# Altium footprint library RCU.PcbLib: 91 footprints (part 3 of 6)
Each footprint in its own frame and in the unit in brackets; x right, y up, seen from the top. Pads: shape width x height; smd on the part's side, far side on the other; paste and mask are expansions set on the pad; w line width, h text height; cw(c..) or ccw(c..) is an arc to the next point about the centre after c.
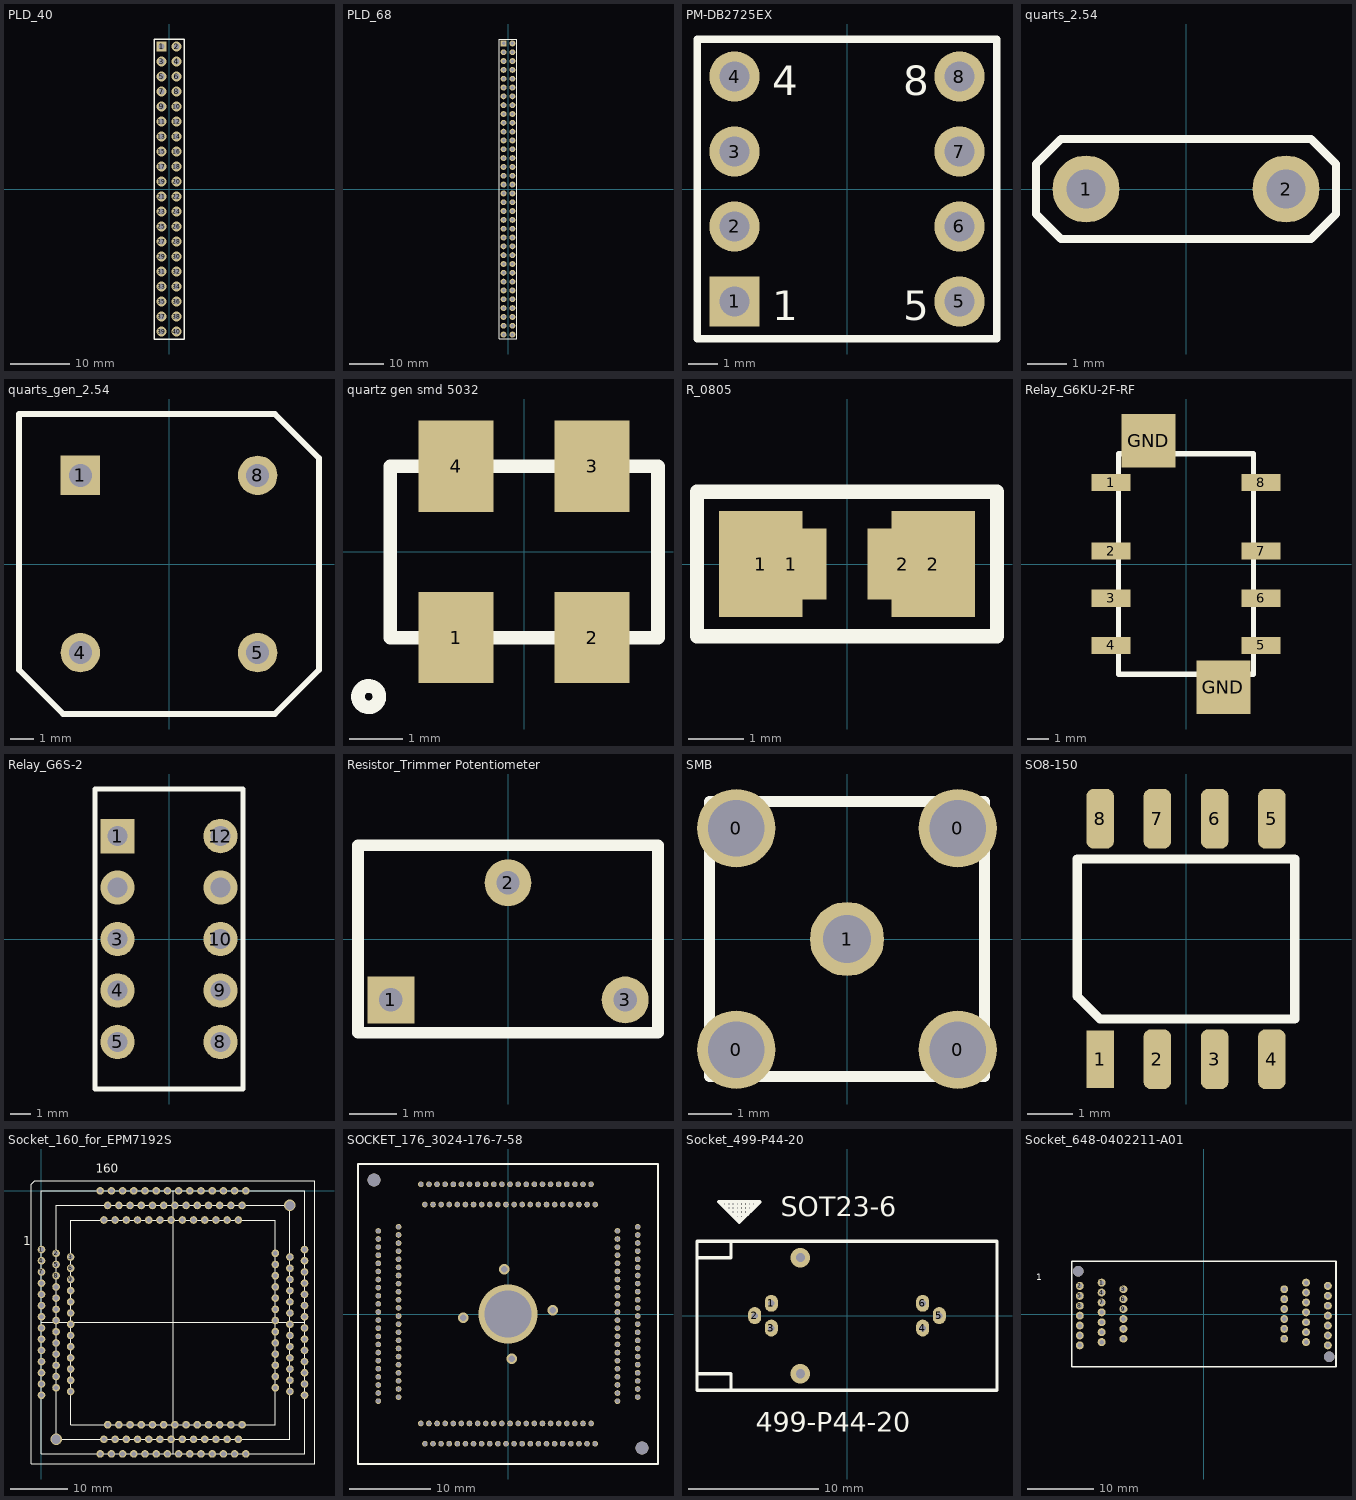
[diagram p2: the footprints below, top view; thin cyan lines are the x and y axes]

## PLD_40 [mm]
height 5
pads (40):
  rect 1.7x1.7 hole 1: 1(-1.27,24.13)
  round 1.7 hole 1: 2(1.27,24.13) 3(-1.27,21.59) 4(1.27,21.59) 5(-1.27,19.05) 6(1.27,19.05) 7(-1.27,16.51) 8(1.27,16.51) 9(-1.27,13.97) 10(1.27,13.97) 11(-1.27,11.43) 12(1.27,11.43) 13(-1.27,8.89) 14(1.27,8.89) 15(-1.27,6.35) 16(1.27,6.35) 17(-1.27,3.81) 18(1.27,3.81) 19(-1.27,1.27) 20(1.27,1.27) 21(-1.27,-1.27) 22(1.27,-1.27) 23(-1.27,-3.81) 24(1.27,-3.81) 25(-1.27,-6.35) 26(1.27,-6.35) 27(-1.27,-8.89) 28(1.27,-8.89) 29(-1.27,-11.43) 30(1.27,-11.43) 31(-1.27,-13.97) 32(1.27,-13.97) 33(-1.27,-16.51) 34(1.27,-16.51) 35(-1.27,-19.05) 36(1.27,-19.05) 37(-1.27,-21.59) 38(1.27,-21.59) 39(-1.27,-24.13) 40(1.27,-24.13)
Top Overlay:
  lines w0.254: -2.54,-25.4 -2.54,25.4 2.54,25.4 2.54,-25.4 -2.54,-25.4

## PLD_68 [mm]
height 5
pads (68):
  rect 1.7x1.7 hole 1: 1(-1.27,41.91)
  round 1.7 hole 1: 2(1.27,41.91) 3(-1.27,39.37) 4(1.27,39.37) 5(-1.27,36.83) 6(1.27,36.83) 7(-1.27,34.29) 8(1.27,34.29) 9(-1.27,31.75) 10(1.27,31.75) 11(-1.27,29.21) 12(1.27,29.21) 13(-1.27,26.67) 14(1.27,26.67) 15(-1.27,24.13) 16(1.27,24.13) 17(-1.27,21.59) 18(1.27,21.59) 19(-1.27,19.05) 20(1.27,19.05) 21(-1.27,16.51) 22(1.27,16.51) 23(-1.27,13.97) 24(1.27,13.97) 25(-1.27,11.43) 26(1.27,11.43) 27(-1.27,8.89) 28(1.27,8.89) 29(-1.27,6.35) 30(1.27,6.35) 31(-1.27,3.81) 32(1.27,3.81) 33(-1.27,1.27) 34(1.27,1.27) 35(-1.27,-1.27) 36(1.27,-1.27) 37(-1.27,-3.81) 38(1.27,-3.81) 39(-1.27,-6.35) 40(1.27,-6.35) 41(-1.27,-8.89) 42(1.27,-8.89) 43(-1.27,-11.43) 44(1.27,-11.43) 45(-1.27,-13.97) 46(1.27,-13.97) 47(-1.27,-16.51) 48(1.27,-16.51) 49(-1.27,-19.05) 50(1.27,-19.05) 51(-1.27,-21.59) 52(1.27,-21.59) 53(-1.27,-24.13) 54(1.27,-24.13) 55(-1.27,-26.67) 56(1.27,-26.67) 57(-1.27,-29.21) 58(1.27,-29.21) 59(-1.27,-31.75) 60(1.27,-31.75) 61(-1.27,-34.29) 62(1.27,-34.29) 63(-1.27,-36.83) 64(1.27,-36.83) 65(-1.27,-39.37) 66(1.27,-39.37) 67(-1.27,-41.91) 68(1.27,-41.91)
Top Overlay:
  lines w0.254: -2.54,-43.18 -2.54,43.18 2.54,43.18 2.54,-43.18 -2.54,-43.18

## PM-DB2725EX [mm]
pads (8):
  rect 1.7x1.7 hole 1: 1(-3.81,-3.81)
  round 1.7 hole 1: 2(-3.81,-1.27) 3(-3.81,1.27) 4(-3.81,3.81) 5(3.81,-3.81) 6(3.81,-1.27) 7(3.81,1.27) 8(3.81,3.81)
Top Overlay:
  lines w0.254: -5.08,-5.08 5.08,-5.08 5.08,5.08 -5.08,5.08 -5.08,-5.08
  text "8" at 1.905,3.175 h1
  text "5" at 1.905,-4.445 h1
  text "1" at -2.54,-4.445 h1
  text "4" at -2.54,3.175 h1

## quarts_2.54 [mm]
pads (2):
  round 1.7 hole 1: 1(-2.54,0) 2(2.54,0)
Top Overlay:
  lines w0.2: -3.81,-0.635 -3.81,0.635 -3.175,1.27 3.175,1.27 3.81,0.635 3.81,-0.635 3.175,-1.27 -3.175,-1.27 -3.81,-0.635

## quarts_gen_2.54 [mm]
pads (4):
  rect 1.7x1.7 hole 1: 1(-3.81,3.81)
  round 1.7 hole 1: 4(-3.81,-3.81) 5(3.81,-3.81) 8(3.81,3.81)
Top Overlay:
  lines w0.254: -6.45,-4.55 -6.45,6.45 4.55,6.45 6.45,4.55 6.45,-4.55 4.55,-6.45 -4.55,-6.45 -6.45,-4.55

## quartz gen smd 5032 [mm]
pads (4):
  rect 1.4x1.7 smd: 1(-1.27,-1.6) 2(1.27,-1.6) 3(1.27,1.6) 4(-1.27,1.6)
Top Overlay:
  circle w0.254: c-2.9,-2.7 r0.2
  lines w0.254: -2.5,-1.6 -2.5,0 -2.5,1.6 0,1.6 2.5,1.6 2.5,0 2.5,-1.6 0,-1.6 -2.5,-1.6

## R_0805 [mm]
pads (4):
  rect 1.5x1.9 smd: 1(-1.55,0) 2(1.55,0)
  rect 1.27x1.27 smd: 1(-1,0) 2(1,0)
Top Overlay:
  lines w0.254: -2.7,-1.3 2.7,-1.3 2.7,1.3 -2.7,1.3 -2.7,-1.3

## Relay_G6KU-2F-RF [mm]
pads (10):
  rect 1.8x0.8 smd: 1(-3.5,3.8) 2(-3.5,0.6) 3(-3.5,-1.6) 4(-3.5,-3.8) 5(3.5,-3.8) 6(3.5,-1.6) 7(3.5,0.6) 8(3.5,3.8)
  rect 2.5x2.5 smd: GND(-1.75,5.75) GND(1.75,-5.75)
Top Overlay:
  lines w0.254: -3.15,-5.15 3.15,-5.15 3.15,5.15 -3.15,5.15 -3.15,-5.15

## Relay_G6S-2 [mm]
pads (8):
  rect 1.7x1.7 hole 1: 1(-2.54,5.08)
  round 1.7 hole 1: 3(-2.54,0) 4(-2.54,-2.54) 5(-2.54,-5.08) 8(2.54,-5.08) 9(2.54,-2.54) 10(2.54,0) 12(2.54,5.08)
via -2.54,2.54 diameter 1.7 hole 1
via 2.54,2.54 diameter 1.7 hole 1
Top Overlay:
  lines w0.254: -3.65,-7.4 3.65,-7.4 3.65,7.4 -3.65,7.4 -3.65,-7.4

## Resistor_Trimmer Potentiometer [mm]
pads (3):
  rect 1x1 hole 0.5: 1(-2.5,-1.3)
  round 1 hole 0.5: 2(0,1.2) 3(2.5,-1.3)
Top Overlay:
  lines w0.254: -3.2,-2 3.2,-2 3.2,2 -3.2,2 -3.2,-2

## SMB [mm]
pads (5):
  round 1.8 hole 1.3: 0(-2.54,-2.54) 0(-2.54,2.54) 0(2.54,-2.54) 0(2.54,2.54)
  round 1.7 hole 1.1: 1(0,0)
Top Overlay:
  lines w0.254: -3.15,-3.15 3.15,-3.15 3.15,3.15 -3.15,3.15 -3.15,-3.15

## SO8-150 [mil]
pads (8):
  rect 24x50 smd mask+4: 1(-75,-105)
  rrect50% 24x52 smd mask+4: 2(-25,-105) 3(25,-105) 4(75,-105) 5(75,105) 6(25,105) 7(-25,105) 8(-75,105)
Top Overlay:
  lines w8: -95.01,-49.99 -95.01,70 95,70 95,-70 -75,-70 -95.01,-49.99
3D body: height 67, standoff 0, extent -95.01,-122.01 94.99,121.99

## Socket_160_for_EPM7192S [mm]
pads (160):
  round 1.33 hole 0.83: 1(0,-10.22) 2(2.54,-10.87) 3(5.08,-11.52) 4(0,-12.17) 5(2.54,-12.82) 6(5.08,-13.47) 7(0,-14.12) 8(2.54,-14.77) 9(5.08,-15.42) 10(0,-16.07) 11(2.54,-16.72) 12(5.08,-17.37) 13(0,-18.02) 14(2.54,-18.67) 15(5.08,-19.32) 16(0,-19.97) 17(2.54,-20.62) 18(5.08,-21.27) 19(0,-21.92) 20(2.54,-22.57) 21(5.08,-23.22) 22(0,-23.87) 23(2.54,-24.52) 24(5.08,-25.17) 25(0,-25.82) 26(2.54,-26.47) 27(5.08,-27.12) 28(0,-27.77) 29(2.54,-28.42) 30(5.08,-29.07) 31(0,-29.72) 32(2.54,-30.37) 33(5.08,-31.02) 34(0,-31.67) 35(2.54,-32.32) 36(5.08,-32.97) 37(0,-33.62) 38(2.54,-34.27) 39(5.08,-34.92) 40(0,-35.57) 41(10.22,-45.79) 42(10.87,-43.25) 43(11.52,-40.71) 44(12.17,-45.79) 45(12.82,-43.25) 46(13.47,-40.71) 47(14.12,-45.79) 48(14.77,-43.25) 49(15.42,-40.71) 50(16.07,-45.79) 51(16.72,-43.25) 52(17.37,-40.71) 53(18.02,-45.79) 54(18.67,-43.25) 55(19.32,-40.71) 56(19.97,-45.79) 57(20.62,-43.25) 58(21.27,-40.71) 59(21.92,-45.79) 60(22.57,-43.25) 61(23.22,-40.71) 62(23.87,-45.79) 63(24.52,-43.25) 64(25.17,-40.71) 65(25.82,-45.79) 66(26.47,-43.25) 67(27.12,-40.71) 68(27.77,-45.79) 69(28.42,-43.25) 70(29.07,-40.71) 71(29.72,-45.79) 72(30.37,-43.25) 73(31.02,-40.71) 74(31.67,-45.79) 75(32.32,-43.25) 76(32.97,-40.71) 77(33.62,-45.79) 78(34.27,-43.25) 79(34.92,-40.71) 80(35.57,-45.79) 81(45.79,-35.57) 82(43.25,-34.92) 83(40.71,-34.27) 84(45.79,-33.62) 85(43.25,-32.97) 86(40.71,-32.32) 87(45.79,-31.67) 88(43.25,-31.02) 89(40.71,-30.37) 90(45.79,-29.72) 91(43.25,-29.07) 92(40.71,-28.42) 93(45.79,-27.77) 94(43.25,-27.12) 95(40.71,-26.47) 96(45.79,-25.82) 97(43.25,-25.17) 98(40.71,-24.52) 99(45.79,-23.87) 100(43.25,-23.22) 101(40.71,-22.57) 102(45.79,-21.92) 103(43.25,-21.27) 104(40.71,-20.62) 105(45.79,-19.97) 106(43.25,-19.32) 107(40.71,-18.67) 108(45.79,-18.02) 109(43.25,-17.37) 110(40.71,-16.72) 111(45.79,-16.07) 112(43.25,-15.42) 113(40.71,-14.77) 114(45.79,-14.12) 115(43.25,-13.47) 116(40.71,-12.82) 117(45.79,-12.17) 118(43.25,-11.52) 119(40.71,-10.87) 120(45.79,-10.22) 121(35.57,0) 122(34.92,-2.54) 123(34.27,-5.08) 124(33.62,0) 125(32.97,-2.54) 126(32.32,-5.08) 127(31.67,0) 128(31.02,-2.54) 129(30.37,-5.08) 130(29.72,0) 131(29.07,-2.54) 132(28.42,-5.08) 133(27.77,0) 134(27.12,-2.54) 135(26.47,-5.08) 136(25.82,0) 137(25.17,-2.54) 138(24.52,-5.08) 139(23.87,0) 140(23.22,-2.54) 141(22.57,-5.08) 142(21.92,0) 143(21.27,-2.54) 144(20.62,-5.08) 145(19.97,0) 146(19.32,-2.54) 147(18.67,-5.08) 148(18.02,0) 149(17.37,-2.54) 150(16.72,-5.08) 151(16.07,0) 152(15.42,-2.54) 153(14.77,-5.08) 154(14.12,0) 155(13.47,-2.54) 156(12.82,-5.08) 157(12.17,0) 158(11.52,-2.54) 159(10.87,-5.08) 160(10.22,0)
via 43.25,-2.54 diameter 2 hole 1.6
via 2.54,-43.25 diameter 2 hole 1.6
Top Overlay:
  lines w0.01: 0,-22.895 45.79,-22.895 ; 21.92,0 22.895,0 22.895,-45.79 ; 0,-45.79 0,0 45.79,0 45.79,-45.79 0,-45.79 ; 2.54,-43.25 2.54,-2.54 43.25,-2.54 43.25,-43.25 2.54,-43.25 ; 5.08,-40.71 5.08,-5.08 40.71,-5.08 40.71,-40.71 5.08,-40.71
  lines w0.1: -1.755,-47.545 -1.755,1.135 -1.135,1.755 47.545,1.755 47.545,-47.545 -1.755,-47.545
  text "1" at -3.15,-9.45 h1.52
  text "160" at 9.45,3.15 h1.52

## SOCKET_176_3024-176-7-58 [mm]
pads (176):
  round 0.7 hole 0.5: 1(-13.5,10.75) 2(-16,10.25) 3(-13.5,9.75) 4(-16,9.25) 5(-13.5,8.75) 6(-16,8.25) 7(-13.5,7.75) 8(-16,7.25) 9(-13.5,6.75) 10(-16,6.25) 11(-13.5,5.75) 12(-16,5.25) 13(-13.5,4.75) 14(-16,4.25) 15(-13.5,3.75) 16(-16,3.25) 17(-13.5,2.75) 18(-16,2.25) 19(-13.5,1.75) 20(-16,1.25) 21(-13.5,0.75) 22(-16,0.25) 23(-13.5,-0.25) 24(-16,-0.75) 25(-13.5,-1.25) 26(-16,-1.75) 27(-13.5,-2.25) 28(-16,-2.75) 29(-13.5,-3.25) 30(-16,-3.75) 31(-13.5,-4.25) 32(-16,-4.75) 33(-13.5,-5.25) 34(-16,-5.75) 35(-13.5,-6.25) 36(-16,-6.75) 37(-13.5,-7.25) 38(-16,-7.75) 39(-13.5,-8.25) 40(-16,-8.75) 41(-13.5,-9.25) 42(-16,-9.75) 43(-13.5,-10.25) 44(-16,-10.75) 45(-10.75,-13.5) 46(-10.25,-16) 47(-9.75,-13.5) 48(-9.25,-16) 49(-8.75,-13.5) 50(-8.25,-16) 51(-7.75,-13.5) 52(-7.25,-16) 53(-6.75,-13.5) 54(-6.25,-16) 55(-5.75,-13.5) 56(-5.25,-16) 57(-4.75,-13.5) 58(-4.25,-16) 59(-3.75,-13.5) 60(-3.25,-16) 61(-2.75,-13.5) 62(-2.25,-16) 63(-1.75,-13.5) 64(-1.25,-16) 65(-0.75,-13.5) 66(-0.25,-16) 67(0.25,-13.5) 68(0.75,-16) 69(1.25,-13.5) 70(1.75,-16) 71(2.25,-13.5) 72(2.75,-16) 73(3.25,-13.5) 74(3.75,-16) 75(4.25,-13.5) 76(4.75,-16) 77(5.25,-13.5) 78(5.75,-16) 79(6.25,-13.5) 80(6.75,-16) 81(7.25,-13.5) 82(7.75,-16) 83(8.25,-13.5) 84(8.75,-16) 85(9.25,-13.5) 86(9.75,-16) 87(10.25,-13.5) 88(10.75,-16) 89(13.5,-10.75) 90(16,-10.25) 91(13.5,-9.75) 92(16,-9.25) 93(13.5,-8.75) 94(16,-8.25) 95(13.5,-7.75) 96(16,-7.25) 97(13.5,-6.75) 98(16,-6.25) 99(13.5,-5.75) 100(16,-5.25) 101(13.5,-4.75) 102(16,-4.25) 103(13.5,-3.75) 104(16,-3.25) 105(13.5,-2.75) 106(16,-2.25) 107(13.5,-1.75) 108(16,-1.25) 109(13.5,-0.75) 110(16,-0.25) 111(13.5,0.25) 112(16,0.75) 113(13.5,1.25) 114(16,1.75) 115(13.5,2.25) 116(16,2.75) 117(13.5,3.25) 118(16,3.75) 119(13.5,4.25) 120(16,4.75) 121(13.5,5.25) 122(16,5.75) 123(13.5,6.25) 124(16,6.75) 125(13.5,7.25) 126(16,7.75) 127(13.5,8.25) 128(16,8.75) 129(13.5,9.25) 130(16,9.75) 131(13.5,10.25) 132(16,10.75) 133(10.75,13.5) 134(10.25,16) 135(9.75,13.5) 136(9.25,16) 137(8.75,13.5) 138(8.25,16) 139(7.75,13.5) 140(7.25,16) 141(6.75,13.5) 142(6.25,16) 143(5.75,13.5) 144(5.25,16) 145(4.75,13.5) 146(4.25,16) 147(3.75,13.5) 148(3.25,16) 149(2.75,13.5) 150(2.25,16) 151(1.75,13.5) 152(1.25,16) 153(0.75,13.5) 154(0.25,16) 155(-0.25,13.5) 156(-0.75,16) 157(-1.25,13.5) 158(-1.75,16) 159(-2.25,13.5) 160(-2.75,16) 161(-3.25,13.5) 162(-3.75,16) 163(-4.25,13.5) 164(-4.75,16) 165(-5.25,13.5) 166(-5.75,16) 167(-6.25,13.5) 168(-6.75,16) 169(-7.25,13.5) 170(-7.75,16) 171(-8.25,13.5) 172(-8.75,16) 173(-9.25,13.5) 174(-9.75,16) 175(-10.25,13.5) 176(-10.75,16)
via 16.51,-16.51 diameter 1.6 hole 1.6
via -16.51,16.51 diameter 1.6 hole 1.6
via 0.48,-5.54 diameter 1.3 hole 0.8
via -5.54,-0.48 diameter 1.3 hole 0.8
via -0.48,5.54 diameter 1.3 hole 0.8
via 5.54,0.48 diameter 1.3 hole 0.8
via 0,0 diameter 7.3 hole 5.8
Top Overlay:
  lines w0.254: -18.5,-18.5 -18.5,18.5 18.5,18.5 18.5,-18.5 -18.5,-18.5

## Socket_499-P44-20 [mm]
pads (6):
  oval 1x1.3 hole 0.5: 1(-5.8,0.95) 2(-7.075,0) 3(-5.8,-0.95) 4(5.8,-0.95) 5(7.075,0) 6(5.8,0.95)
via -3.57,4.45 diameter 1.5 hole 0.7
via -3.57,-4.45 diameter 1.5 hole 0.7
Top Overlay:
  lines w0.254: -11.5,-4.45 -8.9,-4.45 -8.9,-5.715 ; -11.5,4.45 -8.9,4.45 -8.9,5.715 ; -9.525,8.731 -9.525,8.414 -6.985,8.414 -6.985,8.731 ; -9.207,8.731 -9.207,8.096 -7.302,8.096 -7.302,8.731 ; -8.89,8.731 -8.89,7.779 -7.62,7.779 -7.62,8.731 ; -8.572,8.731 -8.572,7.461 -7.938,7.461 -7.938,8.731 ; -8.255,8.731 -8.255,7.144 ; -8.255,7.144 -6.667,8.731 -9.842,8.731 -8.255,7.144 ; -11.5,-5.715 11.5,-5.715 11.5,5.715 -11.5,5.715 -11.5,-5.715
  text "499-P44-20" at -6.985,-8.89 h1.5
  text "SOT23-6" at -5.08,7.62 h1.52

## Socket_648-0402211-A01 [mm]
pads (40):
  round 1.2 hole 0.7: 1(-15.47,4.75) 2(-18.77,4.25) 3(-12.17,3.75) 4(-15.47,3.25) 5(-18.77,2.75) 6(-12.17,2.25) 7(-15.47,1.75) 8(-18.77,1.25) 9(-12.17,0.75) 10(-15.47,0.25) 11(-18.77,-0.25) 12(-12.17,-0.75) 13(-15.47,-1.25) 14(-18.77,-1.75) 15(-12.17,-2.25) 16(-15.47,-2.75) 17(-18.77,-3.25) 18(-12.17,-3.75) 19(-15.47,-4.25) 20(-18.77,-4.75) 21(18.77,-4.75) 22(15.47,-4.25) 23(12.17,-3.75) 24(18.77,-3.25) 25(15.47,-2.75) 26(12.17,-2.25) 27(18.77,-1.75) 28(15.47,-1.25) 29(12.17,-0.75) 30(18.77,-0.25) 31(15.47,0.25) 32(12.17,0.75) 33(18.77,1.25) 34(15.47,1.75) 35(12.17,2.25) 36(18.77,2.75) 37(15.47,3.25) 38(12.17,3.75) 39(18.77,4.25) 40(15.47,4.75)
via -19,6.5 diameter 1.6 hole 1.6
via 19,-6.5 diameter 1.6 hole 1.6
Top Overlay:
  lines w0.254: -20,-8 -20,8 20,8 20,-8 -20,-8
  text "1" at -25.4,5.08 h1